# Altium integrated library Maxim Microcontroller.IntLib: 169 symbols (part 6 of 6)
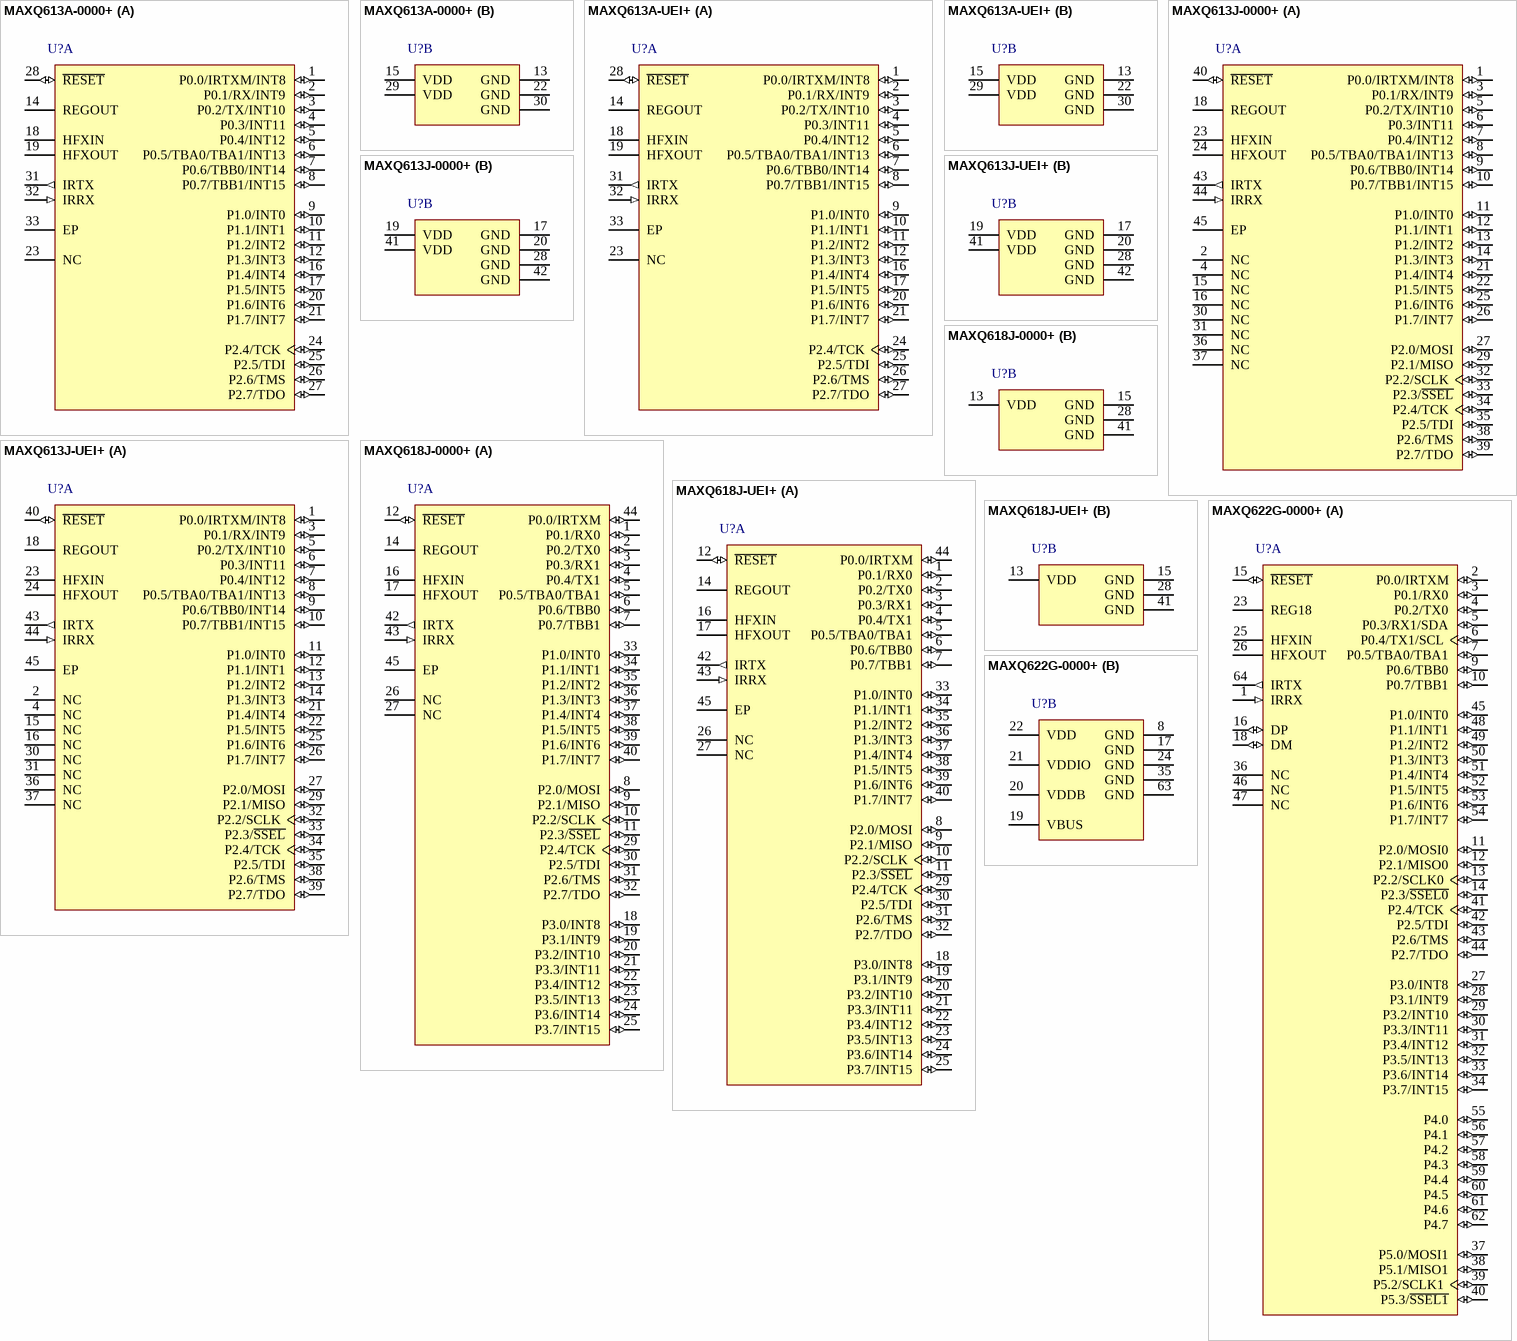
[diagram p29: symbols MAXQ613A-0000+ to MAXQ622G-0000+]

## MAXQ622G-0000+
designator U?
16-bit Microcontroller with Infrared Module and Optional USB, 12 MHz Max. Clock Speed, 64-pin LQFP, 0° to + 70° C, Pb-Free; DatasheetVersion: 1/05/2010; PackageVersion: revG, 2009; PackageReference: C64+5; PackageDescription: 64-Pin Low Quad Flatpack, 10 x 10 x 1.4 mm Body, 0.5 mm Pitch, LQFP, Pb-Free; Code_JEDEC: MS-026-BCD; ComponentLink1Description: Manufacturer URL; ComponentLink1URL: www.maxim-ic.com; ComponentLink2Description: Datasheet; ComponentLink2URL: http://datasheets.maxim-ic.com/en/ds/MAXQ612-MAXQ622.pdf
footprint C64+5_N (Thin QFP, 64-Leads, Body 10x10mm, Pitch 0.5mm, IPC Medium Density)
footprint C64+5_L (Thin QFP, 64-Leads, Body 10x10mm, Pitch 0.5mm, IPC High Density)
footprint C64+5_M (Thin QFP, 64-Leads, Body 10x10mm, Pitch 0.5mm, IPC Low Density)
part A pins: 1 IRRX (in), 2 P0.0/IRTXM (io), 3 P0.1/RX0 (io), 4 P0.2/TX0 (io), 5 P0.3/RX1/SDA (io), 6 P0.4/TX1/SCL (io), 7 P0.5/TBA0/TBA1 (io), 9 P0.6/TBB0 (io), 10 P0.7/TBB1 (io), 11 P2.0/MOSI0 (io), 12 P2.1/MISO0 (io), 13 P2.2/SCLK0 (io), 14 P2.3/~{SSEL0} (io), 15 ~{RESET} (io), 16 DP (io), 18 DM (io), 23 REG18, 25 HFXIN, 26 HFXOUT, 27 P3.0/INT8 (io), 28 P3.1/INT9 (io), 29 P3.2/INT10 (io), 30 P3.3/INT11 (io), 31 P3.4/INT12 (io), 32 P3.5/INT13 (io), 33 P3.6/INT14 (io), 34 P3.7/INT15 (io), 36 NC, 37 P5.0/MOSI1 (io), 38 P5.1/MISO1 (io), 39 P5.2/SCLK1 (io), 40 P5.3/~{SSEL1} (io), 41 P2.4/TCK (io), 42 P2.5/TDI (io), 43 P2.6/TMS (io), 44 P2.7/TDO (io), 45 P1.0/INT0 (io), 46 NC, 47 NC, 48 P1.1/INT1 (io), 49 P1.2/INT2 (io), 50 P1.3/INT3 (io), 51 P1.4/INT4 (io), 52 P1.5/INT5 (io), 53 P1.6/INT6 (io), 54 P1.7/INT7 (io), 55 P4.0 (io), 56 P4.1 (io), 57 P4.2 (io), 58 P4.3 (io), 59 P4.4 (io), 60 P4.5 (io), 61 P4.6 (io), 62 P4.7 (io), 64 IRTX (out)
part B pins: 8 GND (power), 17 GND (power), 19 VBUS (power), 20 VDDB (power), 21 VDDIO (power), 22 VDD (power), 24 GND (power), 35 GND (power), 63 GND (power)

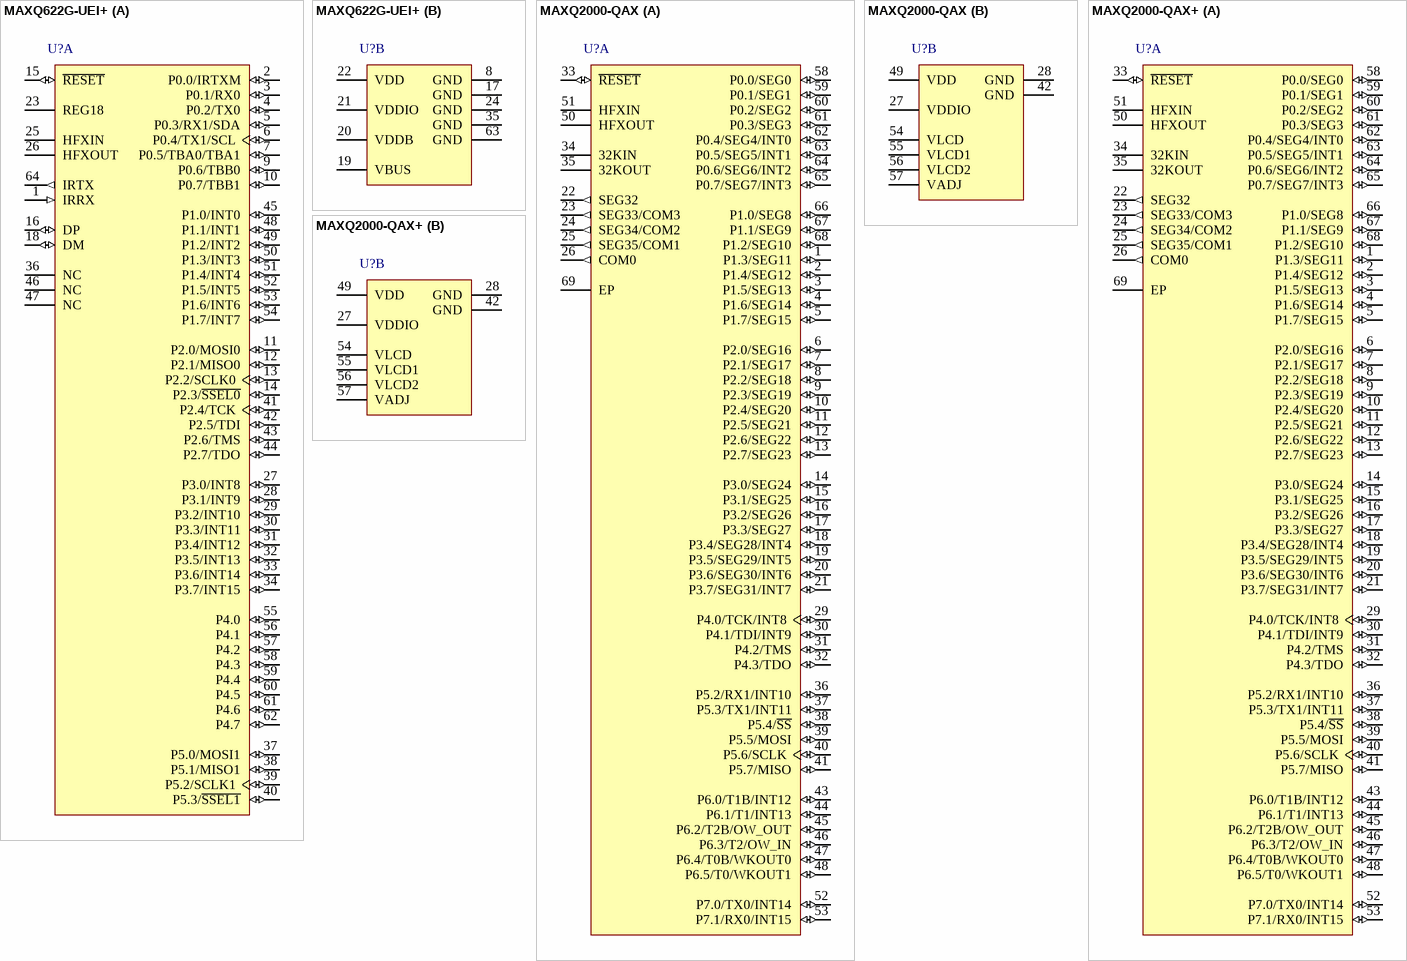
[diagram p20: symbols MAXQ622G-UEI+ to MAXQ2000-QAX+]

## MAXQ622G-UEI+
designator U?
16-bit Microcontroller with Infrared Module and Optional USB, 12 MHz Max. Clock Speed, 64-pin LQFP, 0° to + 70° C, Pb-Free; DatasheetVersion: 1/05/2010; PackageVersion: revG, 2009; PackageReference: C64+5; PackageDescription: 64-Pin Low Quad Flatpack, 10 x 10 x 1.4 mm Body, 0.5 mm Pitch, LQFP, Pb-Free; Code_JEDEC: MS-026-BCD; ComponentLink1Description: Manufacturer URL; ComponentLink1URL: www.maxim-ic.com; ComponentLink2Description: Datasheet; ComponentLink2URL: http://datasheets.maxim-ic.com/en/ds/MAXQ612-MAXQ622.pdf
footprint C64+5_N (Thin QFP, 64-Leads, Body 10x10mm, Pitch 0.5mm, IPC Medium Density)
footprint C64+5_L (Thin QFP, 64-Leads, Body 10x10mm, Pitch 0.5mm, IPC High Density)
footprint C64+5_M (Thin QFP, 64-Leads, Body 10x10mm, Pitch 0.5mm, IPC Low Density)
part A pins: 1 IRRX (in), 2 P0.0/IRTXM (io), 3 P0.1/RX0 (io), 4 P0.2/TX0 (io), 5 P0.3/RX1/SDA (io), 6 P0.4/TX1/SCL (io), 7 P0.5/TBA0/TBA1 (io), 9 P0.6/TBB0 (io), 10 P0.7/TBB1 (io), 11 P2.0/MOSI0 (io), 12 P2.1/MISO0 (io), 13 P2.2/SCLK0 (io), 14 P2.3/~{SSEL0} (io), 15 ~{RESET} (io), 16 DP (io), 18 DM (io), 23 REG18, 25 HFXIN, 26 HFXOUT, 27 P3.0/INT8 (io), 28 P3.1/INT9 (io), 29 P3.2/INT10 (io), 30 P3.3/INT11 (io), 31 P3.4/INT12 (io), 32 P3.5/INT13 (io), 33 P3.6/INT14 (io), 34 P3.7/INT15 (io), 36 NC, 37 P5.0/MOSI1 (io), 38 P5.1/MISO1 (io), 39 P5.2/SCLK1 (io), 40 P5.3/~{SSEL1} (io), 41 P2.4/TCK (io), 42 P2.5/TDI (io), 43 P2.6/TMS (io), 44 P2.7/TDO (io), 45 P1.0/INT0 (io), 46 NC, 47 NC, 48 P1.1/INT1 (io), 49 P1.2/INT2 (io), 50 P1.3/INT3 (io), 51 P1.4/INT4 (io), 52 P1.5/INT5 (io), 53 P1.6/INT6 (io), 54 P1.7/INT7 (io), 55 P4.0 (io), 56 P4.1 (io), 57 P4.2 (io), 58 P4.3 (io), 59 P4.4 (io), 60 P4.5 (io), 61 P4.6 (io), 62 P4.7 (io), 64 IRTX (out)
part B pins: 8 GND (power), 17 GND (power), 19 VBUS (power), 20 VDDB (power), 21 VDDIO (power), 22 VDD (power), 24 GND (power), 35 GND (power), 63 GND (power)

## MAXQ2000-QAX
designator U?
16-bit Low-Power LCD Microcontroller, 20 MHz Max. Clock Speed, 68-pin QFN, -40° to + 85° C; DatasheetVersion: 1/07/2008; PackageVersion: revD, 2008; PackageReference: G6800-4; PackageDescription: 68-Pin Quad Flatpack, No Leads, 10 x 10 x 0.85 mm Body, 0.5 mm Pitch, QFN; Code_JEDEC: MO-220; ComponentLink1Description: Manufacturer URL; ComponentLink1URL: www.maxim-ic.com; ComponentLink2Description: Datasheet; ComponentLink2URL: http://datasheets.maxim-ic.com/en/ds/MAXQ2000.pdf
footprint G6800-4_N (QFN, 68-Leads, Body 10x10mm, Pitch 0.5mm, Thermal Pad 6x6mm, IPC Medium Density)
footprint G6800-4_L (QFN, 68-Leads, Body 10x10mm, Pitch 0.5mm, Thermal Pad 6x6mm, IPC High Density)
footprint G6800-4_M (QFN, 68-Leads, Body 10x10mm, Pitch 0.5mm, Thermal Pad 6x6mm, IPC Low Density)
part A pins: 1 P1.3/SEG11 (io), 2 P1.4/SEG12 (io), 3 P1.5/SEG13 (io), 4 P1.6/SEG14 (io), 5 P1.7/SEG15 (io), 6 P2.0/SEG16 (io), 7 P2.1/SEG17 (io), 8 P2.2/SEG18 (io), 9 P2.3/SEG19 (io), 10 P2.4/SEG20 (io), 11 P2.5/SEG21 (io), 12 P2.6/SEG22 (io), 13 P2.7/SEG23 (io), 14 P3.0/SEG24 (io), 15 P3.1/SEG25 (io), 16 P3.2/SEG26 (io), 17 P3.3/SEG27 (io), 18 P3.4/SEG28/INT4 (io), 19 P3.5/SEG29/INT5 (io), 20 P3.6/SEG30/INT6 (io), 21 P3.7/SEG31/INT7 (io), 22 SEG32 (out), 23 SEG33/COM3 (out), 24 SEG34/COM2 (out), 25 SEG35/COM1 (out), 26 COM0 (out), 29 P4.0/TCK/INT8 (io), 30 P4.1/TDI/INT9 (io), 31 P4.2/TMS (io), 32 P4.3/TDO (io), 33 ~{RESET} (io), 34 32KIN, 35 32KOUT, 36 P5.2/RX1/INT10 (io), 37 P5.3/TX1/INT11 (io), 38 P5.4/~{SS} (io), 39 P5.5/MOSI (io), 40 P5.6/SCLK (io), 41 P5.7/MISO (io), 43 P6.0/T1B/INT12 (io), 44 P6.1/T1/INT13 (io), 45 P6.2/T2B/OW_OUT (io), 46 P6.3/T2/OW_IN (io), 47 P6.4/T0B/WKOUT0 (io), 48 P6.5/T0/WKOUT1 (io), 50 HFXOUT, 51 HFXIN, 52 P7.0/TX0/INT14 (io), 53 P7.1/RX0/INT15 (io), 58 P0.0/SEG0 (io), 59 P0.1/SEG1 (io), 60 P0.2/SEG2 (io), 61 P0.3/SEG3 (io), 62 P0.4/SEG4/INT0 (io), 63 P0.5/SEG5/INT1 (io), 64 P0.6/SEG6/INT2 (io), 65 P0.7/SEG7/INT3 (io), 66 P1.0/SEG8 (io), 67 P1.1/SEG9 (io), 68 P1.2/SEG10 (io), 69 EP
part B pins: 27 VDDIO (power), 28 GND (power), 42 GND (power), 49 VDD (power), 54 VLCD (power), 55 VLCD1 (power), 56 VLCD2 (power), 57 VADJ (power)

## MAXQ2000-QAX+
designator U?
16-bit Low-Power LCD Microcontroller, 20 MHz Max. Clock Speed, 68-pin QFN, -40° to + 85° C, Pb-Free; DatasheetVersion: 1/07/2008; PackageVersion: revD, 2008; PackageReference: G6800+4; PackageDescription: 68-Pin Quad Flatpack, No Leads, 10 x 10 x 0.85 mm Body, 0.5 mm Pitch, QFN, Pb-Free; Code_JEDEC: MO-220; ComponentLink1Description: Manufacturer URL; ComponentLink1URL: www.maxim-ic.com; ComponentLink2Description: Datasheet; ComponentLink2URL: http://datasheets.maxim-ic.com/en/ds/MAXQ2000.pdf
footprint G6800+4_N (QFN, 68-Leads, Body 10x10mm, Pitch 0.5mm, Thermal Pad 6x6mm, IPC Medium Density)
footprint G6800+4_L (QFN, 68-Leads, Body 10x10mm, Pitch 0.5mm, Thermal Pad 6x6mm, IPC High Density)
footprint G6800+4_M (QFN, 68-Leads, Body 10x10mm, Pitch 0.5mm, Thermal Pad 6x6mm, IPC Low Density)
part A pins: 1 P1.3/SEG11 (io), 2 P1.4/SEG12 (io), 3 P1.5/SEG13 (io), 4 P1.6/SEG14 (io), 5 P1.7/SEG15 (io), 6 P2.0/SEG16 (io), 7 P2.1/SEG17 (io), 8 P2.2/SEG18 (io), 9 P2.3/SEG19 (io), 10 P2.4/SEG20 (io), 11 P2.5/SEG21 (io), 12 P2.6/SEG22 (io), 13 P2.7/SEG23 (io), 14 P3.0/SEG24 (io), 15 P3.1/SEG25 (io), 16 P3.2/SEG26 (io), 17 P3.3/SEG27 (io), 18 P3.4/SEG28/INT4 (io), 19 P3.5/SEG29/INT5 (io), 20 P3.6/SEG30/INT6 (io), 21 P3.7/SEG31/INT7 (io), 22 SEG32 (out), 23 SEG33/COM3 (out), 24 SEG34/COM2 (out), 25 SEG35/COM1 (out), 26 COM0 (out), 29 P4.0/TCK/INT8 (io), 30 P4.1/TDI/INT9 (io), 31 P4.2/TMS (io), 32 P4.3/TDO (io), 33 ~{RESET} (io), 34 32KIN, 35 32KOUT, 36 P5.2/RX1/INT10 (io), 37 P5.3/TX1/INT11 (io), 38 P5.4/~{SS} (io), 39 P5.5/MOSI (io), 40 P5.6/SCLK (io), 41 P5.7/MISO (io), 43 P6.0/T1B/INT12 (io), 44 P6.1/T1/INT13 (io), 45 P6.2/T2B/OW_OUT (io), 46 P6.3/T2/OW_IN (io), 47 P6.4/T0B/WKOUT0 (io), 48 P6.5/T0/WKOUT1 (io), 50 HFXOUT, 51 HFXIN, 52 P7.0/TX0/INT14 (io), 53 P7.1/RX0/INT15 (io), 58 P0.0/SEG0 (io), 59 P0.1/SEG1 (io), 60 P0.2/SEG2 (io), 61 P0.3/SEG3 (io), 62 P0.4/SEG4/INT0 (io), 63 P0.5/SEG5/INT1 (io), 64 P0.6/SEG6/INT2 (io), 65 P0.7/SEG7/INT3 (io), 66 P1.0/SEG8 (io), 67 P1.1/SEG9 (io), 68 P1.2/SEG10 (io), 69 EP
part B pins: 27 VDDIO (power), 28 GND (power), 42 GND (power), 49 VDD (power), 54 VLCD (power), 55 VLCD1 (power), 56 VLCD2 (power), 57 VADJ (power)

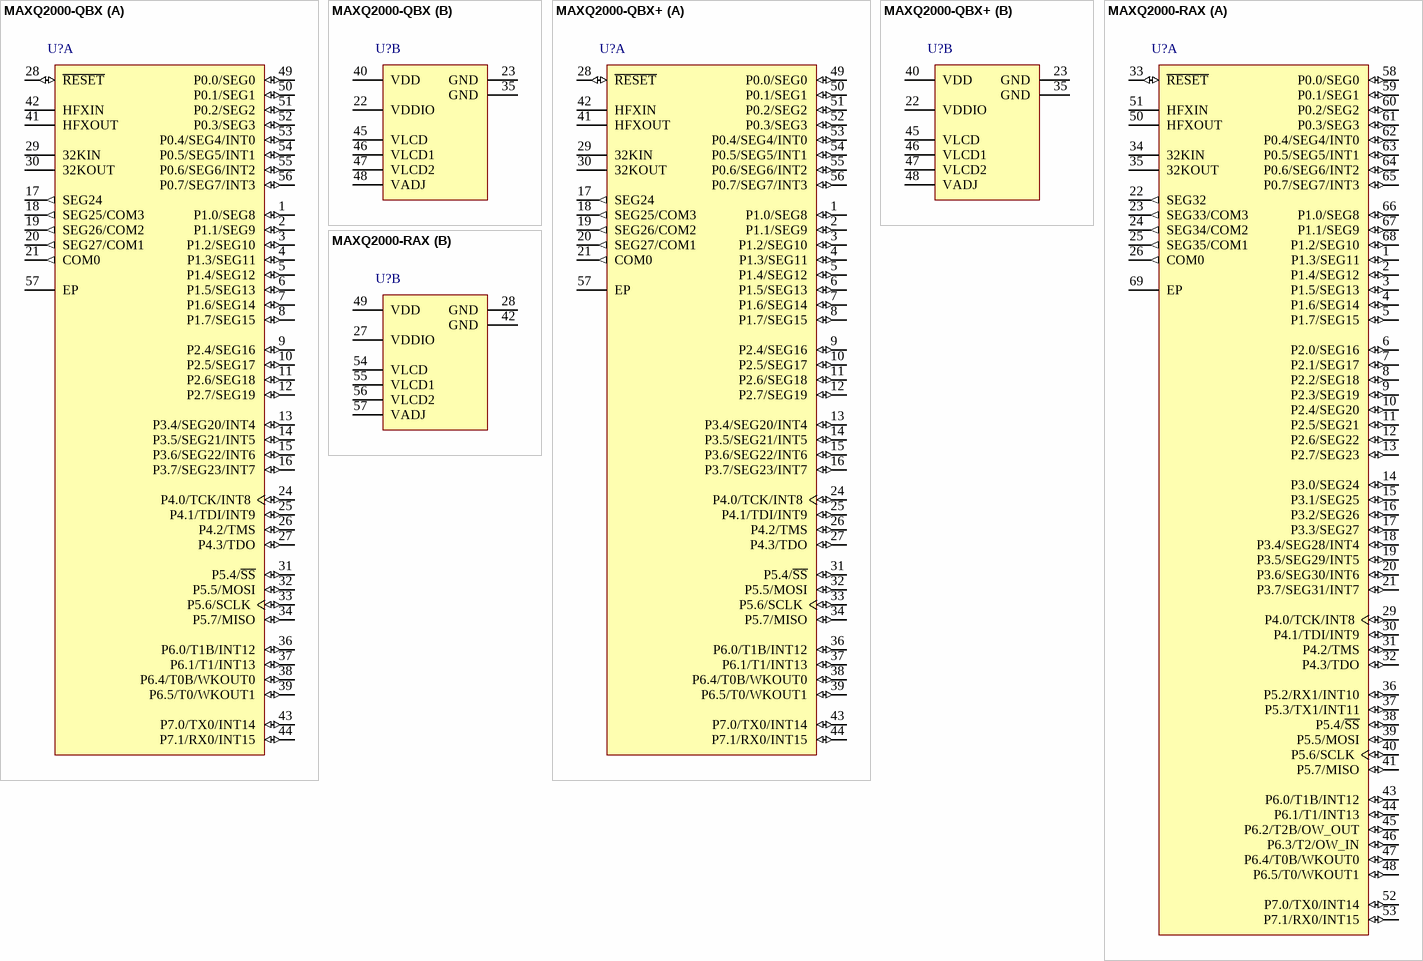
[diagram p21: symbols MAXQ2000-QBX to MAXQ2000-RAX]

## MAXQ2000-QBX
designator U?
16-bit Low-Power LCD Microcontroller, 20 MHz Max. Clock Speed, 56-pin TQFN, -40° to + 85° C; DatasheetVersion: 1/07/2008; PackageVersion: revF, 2007; PackageReference: T5688-2; PackageDescription: 48-Pin Thin Quad Flatpack, No Leads, 8 x 8 x 0.8 mm Body, 0.5 mm Pitch, TQFN; Code_JEDEC: MO-220-WLLD-5; ComponentLink1Description: Manufacturer URL; ComponentLink1URL: www.maxim-ic.com; ComponentLink2Description: Datasheet; ComponentLink2URL: http://datasheets.maxim-ic.com/en/ds/MAXQ2000.pdf
footprint T5688-2_N (QFN, 56-Leads, Body 8x8mm, Pitch 0.5mm, Thermal Pad 6.7x6.7mm, IPC Medium Density)
footprint T5688-2_L (QFN, 56-Leads, Body 8x8mm, Pitch 0.5mm, Thermal Pad 6.7x6.7mm, IPC High Density)
footprint T5688-2_M (QFN, 56-Leads, Body 8x8mm, Pitch 0.5mm, Thermal Pad 6.7x6.7mm, IPC Low Density)
part A pins: 1 P1.0/SEG8 (io), 2 P1.1/SEG9 (io), 3 P1.2/SEG10 (io), 4 P1.3/SEG11 (io), 5 P1.4/SEG12 (io), 6 P1.5/SEG13 (io), 7 P1.6/SEG14 (io), 8 P1.7/SEG15 (io), 9 P2.4/SEG16 (io), 10 P2.5/SEG17 (io), 11 P2.6/SEG18 (io), 12 P2.7/SEG19 (io), 13 P3.4/SEG20/INT4 (io), 14 P3.5/SEG21/INT5 (io), 15 P3.6/SEG22/INT6 (io), 16 P3.7/SEG23/INT7 (io), 17 SEG24 (out), 18 SEG25/COM3 (out), 19 SEG26/COM2 (out), 20 SEG27/COM1 (out), 21 COM0 (out), 24 P4.0/TCK/INT8 (io), 25 P4.1/TDI/INT9 (io), 26 P4.2/TMS (io), 27 P4.3/TDO (io), 28 ~{RESET} (io), 29 32KIN, 30 32KOUT, 31 P5.4/~{SS} (io), 32 P5.5/MOSI (io), 33 P5.6/SCLK (io), 34 P5.7/MISO (io), 36 P6.0/T1B/INT12 (io), 37 P6.1/T1/INT13 (io), 38 P6.4/T0B/WKOUT0 (io), 39 P6.5/T0/WKOUT1 (io), 41 HFXOUT, 42 HFXIN, 43 P7.0/TX0/INT14 (io), 44 P7.1/RX0/INT15 (io), 49 P0.0/SEG0 (io), 50 P0.1/SEG1 (io), 51 P0.2/SEG2 (io), 52 P0.3/SEG3 (io), 53 P0.4/SEG4/INT0 (io), 54 P0.5/SEG5/INT1 (io), 55 P0.6/SEG6/INT2 (io), 56 P0.7/SEG7/INT3 (io), 57 EP
part B pins: 22 VDDIO (power), 23 GND (power), 35 GND (power), 40 VDD (power), 45 VLCD (power), 46 VLCD1 (power), 47 VLCD2 (power), 48 VADJ (power)

## MAXQ2000-QBX+
designator U?
16-bit Low-Power LCD Microcontroller, 20 MHz Max. Clock Speed, 56-pin TQFN, -40° to + 85° C, Pb-Free; DatasheetVersion: 1/07/2008; PackageVersion: revF, 2007; PackageReference: T5688+2; PackageDescription: 48-Pin Thin Quad Flatpack, No Leads, 8 x 8 x 0.8 mm Body, 0.5 mm Pitch, TQFN, Pb-Free; Code_JEDEC: MO-220-WLLD-5; ComponentLink1Description: Manufacturer URL; ComponentLink1URL: www.maxim-ic.com; ComponentLink2Description: Datasheet; ComponentLink2URL: http://datasheets.maxim-ic.com/en/ds/MAXQ2000.pdf
footprint T5688+2_N (QFN, 56-Leads, Body 8x8mm, Pitch 0.5mm, Thermal Pad 6.7x6.7mm, IPC Medium Density)
footprint T5688+2_L (QFN, 56-Leads, Body 8x8mm, Pitch 0.5mm, Thermal Pad 6.7x6.7mm, IPC High Density)
footprint T5688+2_M (QFN, 56-Leads, Body 8x8mm, Pitch 0.5mm, Thermal Pad 6.7x6.7mm, IPC Low Density)
part A pins: 1 P1.0/SEG8 (io), 2 P1.1/SEG9 (io), 3 P1.2/SEG10 (io), 4 P1.3/SEG11 (io), 5 P1.4/SEG12 (io), 6 P1.5/SEG13 (io), 7 P1.6/SEG14 (io), 8 P1.7/SEG15 (io), 9 P2.4/SEG16 (io), 10 P2.5/SEG17 (io), 11 P2.6/SEG18 (io), 12 P2.7/SEG19 (io), 13 P3.4/SEG20/INT4 (io), 14 P3.5/SEG21/INT5 (io), 15 P3.6/SEG22/INT6 (io), 16 P3.7/SEG23/INT7 (io), 17 SEG24 (out), 18 SEG25/COM3 (out), 19 SEG26/COM2 (out), 20 SEG27/COM1 (out), 21 COM0 (out), 24 P4.0/TCK/INT8 (io), 25 P4.1/TDI/INT9 (io), 26 P4.2/TMS (io), 27 P4.3/TDO (io), 28 ~{RESET} (io), 29 32KIN, 30 32KOUT, 31 P5.4/~{SS} (io), 32 P5.5/MOSI (io), 33 P5.6/SCLK (io), 34 P5.7/MISO (io), 36 P6.0/T1B/INT12 (io), 37 P6.1/T1/INT13 (io), 38 P6.4/T0B/WKOUT0 (io), 39 P6.5/T0/WKOUT1 (io), 41 HFXOUT, 42 HFXIN, 43 P7.0/TX0/INT14 (io), 44 P7.1/RX0/INT15 (io), 49 P0.0/SEG0 (io), 50 P0.1/SEG1 (io), 51 P0.2/SEG2 (io), 52 P0.3/SEG3 (io), 53 P0.4/SEG4/INT0 (io), 54 P0.5/SEG5/INT1 (io), 55 P0.6/SEG6/INT2 (io), 56 P0.7/SEG7/INT3 (io), 57 EP
part B pins: 22 VDDIO (power), 23 GND (power), 35 GND (power), 40 VDD (power), 45 VLCD (power), 46 VLCD1 (power), 47 VLCD2 (power), 48 VADJ (power)

## MAXQ2000-RAX
designator U?
16-bit Low-Power LCD Microcontroller, 20 MHz Max. Clock Speed, 68-pin QFN, -40° to + 85° C; DatasheetVersion: 1/07/2008; PackageVersion: revD, 2008; PackageReference: G6800-4; PackageDescription: 68-Pin Quad Flatpack, No Leads, 10 x 10 x 0.85 mm Body, 0.5 mm Pitch, QFN; Code_JEDEC: MO-220; ComponentLink1Description: Manufacturer URL; ComponentLink1URL: www.maxim-ic.com; ComponentLink2Description: Datasheet; ComponentLink2URL: http://datasheets.maxim-ic.com/en/ds/MAXQ2000.pdf
footprint G6800-4_N (QFN, 68-Leads, Body 10x10mm, Pitch 0.5mm, Thermal Pad 6x6mm, IPC Medium Density)
footprint G6800-4_L (QFN, 68-Leads, Body 10x10mm, Pitch 0.5mm, Thermal Pad 6x6mm, IPC High Density)
footprint G6800-4_M (QFN, 68-Leads, Body 10x10mm, Pitch 0.5mm, Thermal Pad 6x6mm, IPC Low Density)
part A pins: 1 P1.3/SEG11 (io), 2 P1.4/SEG12 (io), 3 P1.5/SEG13 (io), 4 P1.6/SEG14 (io), 5 P1.7/SEG15 (io), 6 P2.0/SEG16 (io), 7 P2.1/SEG17 (io), 8 P2.2/SEG18 (io), 9 P2.3/SEG19 (io), 10 P2.4/SEG20 (io), 11 P2.5/SEG21 (io), 12 P2.6/SEG22 (io), 13 P2.7/SEG23 (io), 14 P3.0/SEG24 (io), 15 P3.1/SEG25 (io), 16 P3.2/SEG26 (io), 17 P3.3/SEG27 (io), 18 P3.4/SEG28/INT4 (io), 19 P3.5/SEG29/INT5 (io), 20 P3.6/SEG30/INT6 (io), 21 P3.7/SEG31/INT7 (io), 22 SEG32 (out), 23 SEG33/COM3 (out), 24 SEG34/COM2 (out), 25 SEG35/COM1 (out), 26 COM0 (out), 29 P4.0/TCK/INT8 (io), 30 P4.1/TDI/INT9 (io), 31 P4.2/TMS (io), 32 P4.3/TDO (io), 33 ~{RESET} (io), 34 32KIN, 35 32KOUT, 36 P5.2/RX1/INT10 (io), 37 P5.3/TX1/INT11 (io), 38 P5.4/~{SS} (io), 39 P5.5/MOSI (io), 40 P5.6/SCLK (io), 41 P5.7/MISO (io), 43 P6.0/T1B/INT12 (io), 44 P6.1/T1/INT13 (io), 45 P6.2/T2B/OW_OUT (io), 46 P6.3/T2/OW_IN (io), 47 P6.4/T0B/WKOUT0 (io), 48 P6.5/T0/WKOUT1 (io), 50 HFXOUT, 51 HFXIN, 52 P7.0/TX0/INT14 (io), 53 P7.1/RX0/INT15 (io), 58 P0.0/SEG0 (io), 59 P0.1/SEG1 (io), 60 P0.2/SEG2 (io), 61 P0.3/SEG3 (io), 62 P0.4/SEG4/INT0 (io), 63 P0.5/SEG5/INT1 (io), 64 P0.6/SEG6/INT2 (io), 65 P0.7/SEG7/INT3 (io), 66 P1.0/SEG8 (io), 67 P1.1/SEG9 (io), 68 P1.2/SEG10 (io), 69 EP
part B pins: 27 VDDIO (power), 28 GND (power), 42 GND (power), 49 VDD (power), 54 VLCD (power), 55 VLCD1 (power), 56 VLCD2 (power), 57 VADJ (power)

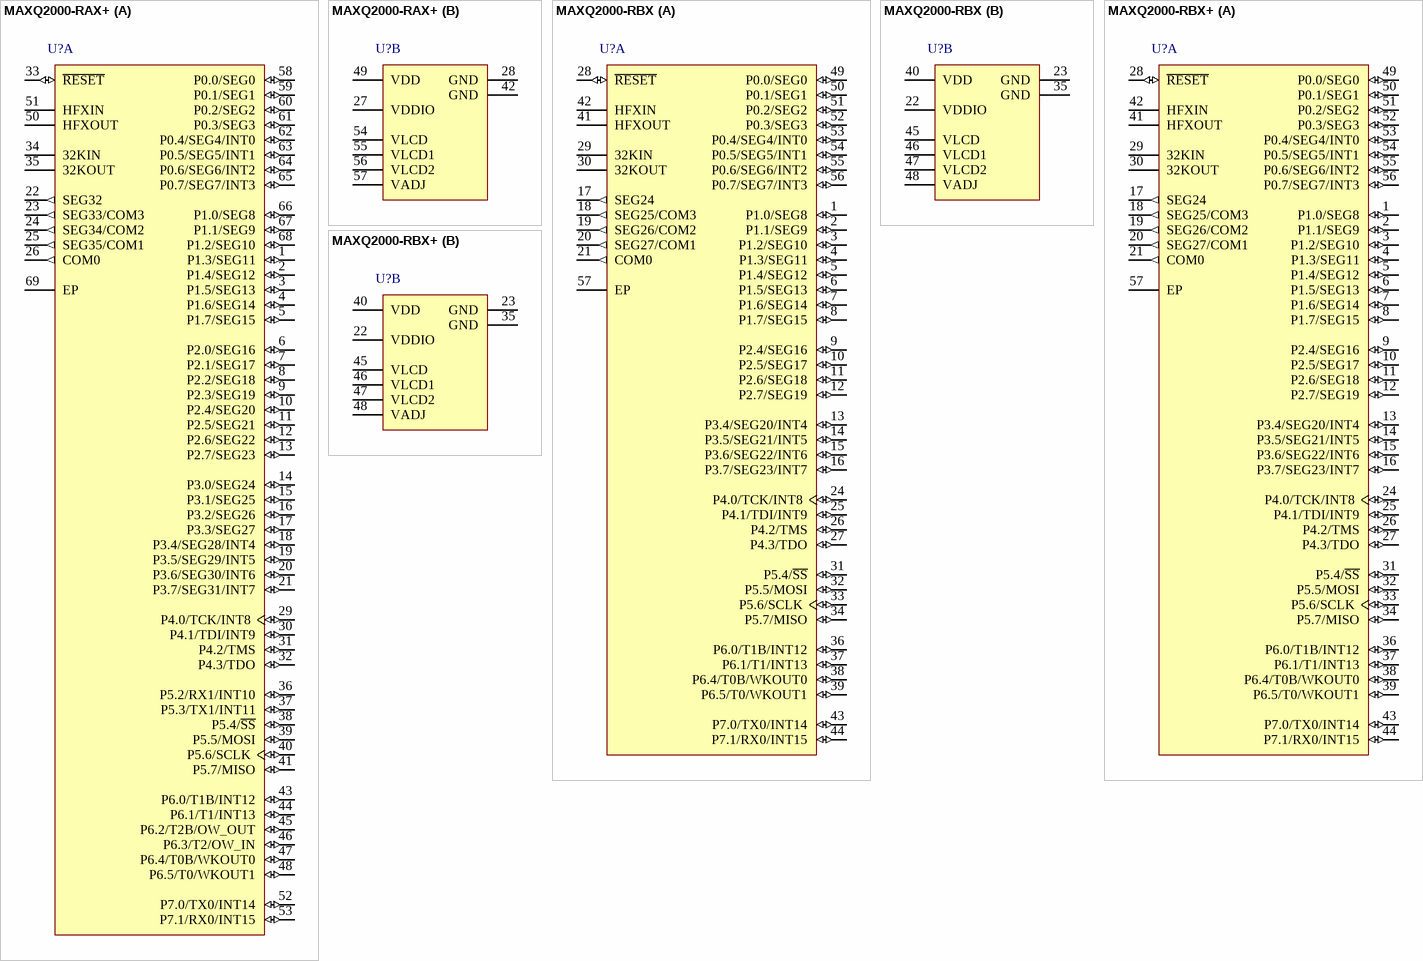
[diagram p22: symbols MAXQ2000-RAX+ to MAXQ2000-RBX+]

## MAXQ2000-RAX+
designator U?
16-bit Low-Power LCD Microcontroller, 20 MHz Max. Clock Speed, 68-pin QFN, -40° to + 85° C, Pb-Free; DatasheetVersion: 1/07/2008; PackageVersion: revD, 2008; PackageReference: G6800+4; PackageDescription: 68-Pin Quad Flatpack, No Leads, 10 x 10 x 0.85 mm Body, 0.5 mm Pitch, QFN, Pb-Free; Code_JEDEC: MO-220; ComponentLink1Description: Manufacturer URL; ComponentLink1URL: www.maxim-ic.com; ComponentLink2Description: Datasheet; ComponentLink2URL: http://datasheets.maxim-ic.com/en/ds/MAXQ2000.pdf
footprint G6800+4_N (QFN, 68-Leads, Body 10x10mm, Pitch 0.5mm, Thermal Pad 6x6mm, IPC Medium Density)
footprint G6800+4_L (QFN, 68-Leads, Body 10x10mm, Pitch 0.5mm, Thermal Pad 6x6mm, IPC High Density)
footprint G6800+4_M (QFN, 68-Leads, Body 10x10mm, Pitch 0.5mm, Thermal Pad 6x6mm, IPC Low Density)
part A pins: 1 P1.3/SEG11 (io), 2 P1.4/SEG12 (io), 3 P1.5/SEG13 (io), 4 P1.6/SEG14 (io), 5 P1.7/SEG15 (io), 6 P2.0/SEG16 (io), 7 P2.1/SEG17 (io), 8 P2.2/SEG18 (io), 9 P2.3/SEG19 (io), 10 P2.4/SEG20 (io), 11 P2.5/SEG21 (io), 12 P2.6/SEG22 (io), 13 P2.7/SEG23 (io), 14 P3.0/SEG24 (io), 15 P3.1/SEG25 (io), 16 P3.2/SEG26 (io), 17 P3.3/SEG27 (io), 18 P3.4/SEG28/INT4 (io), 19 P3.5/SEG29/INT5 (io), 20 P3.6/SEG30/INT6 (io), 21 P3.7/SEG31/INT7 (io), 22 SEG32 (out), 23 SEG33/COM3 (out), 24 SEG34/COM2 (out), 25 SEG35/COM1 (out), 26 COM0 (out), 29 P4.0/TCK/INT8 (io), 30 P4.1/TDI/INT9 (io), 31 P4.2/TMS (io), 32 P4.3/TDO (io), 33 ~{RESET} (io), 34 32KIN, 35 32KOUT, 36 P5.2/RX1/INT10 (io), 37 P5.3/TX1/INT11 (io), 38 P5.4/~{SS} (io), 39 P5.5/MOSI (io), 40 P5.6/SCLK (io), 41 P5.7/MISO (io), 43 P6.0/T1B/INT12 (io), 44 P6.1/T1/INT13 (io), 45 P6.2/T2B/OW_OUT (io), 46 P6.3/T2/OW_IN (io), 47 P6.4/T0B/WKOUT0 (io), 48 P6.5/T0/WKOUT1 (io), 50 HFXOUT, 51 HFXIN, 52 P7.0/TX0/INT14 (io), 53 P7.1/RX0/INT15 (io), 58 P0.0/SEG0 (io), 59 P0.1/SEG1 (io), 60 P0.2/SEG2 (io), 61 P0.3/SEG3 (io), 62 P0.4/SEG4/INT0 (io), 63 P0.5/SEG5/INT1 (io), 64 P0.6/SEG6/INT2 (io), 65 P0.7/SEG7/INT3 (io), 66 P1.0/SEG8 (io), 67 P1.1/SEG9 (io), 68 P1.2/SEG10 (io), 69 EP
part B pins: 27 VDDIO (power), 28 GND (power), 42 GND (power), 49 VDD (power), 54 VLCD (power), 55 VLCD1 (power), 56 VLCD2 (power), 57 VADJ (power)

## MAXQ2000-RBX
designator U?
16-bit Low-Power LCD Microcontroller, 20 MHz Max. Clock Speed, 56-pin TQFN, -40° to + 85° C; DatasheetVersion: 1/07/2008; PackageVersion: revF, 2007; PackageReference: T5688-2; PackageDescription: 48-Pin Thin Quad Flatpack, No Leads, 8 x 8 x 0.8 mm Body, 0.5 mm Pitch, TQFN; Code_JEDEC: MO-220-WLLD-5; ComponentLink1Description: Manufacturer URL; ComponentLink1URL: www.maxim-ic.com; ComponentLink2Description: Datasheet; ComponentLink2URL: http://datasheets.maxim-ic.com/en/ds/MAXQ2000.pdf
footprint T5688-2_N (QFN, 56-Leads, Body 8x8mm, Pitch 0.5mm, Thermal Pad 6.7x6.7mm, IPC Medium Density)
footprint T5688-2_L (QFN, 56-Leads, Body 8x8mm, Pitch 0.5mm, Thermal Pad 6.7x6.7mm, IPC High Density)
footprint T5688-2_M (QFN, 56-Leads, Body 8x8mm, Pitch 0.5mm, Thermal Pad 6.7x6.7mm, IPC Low Density)
part A pins: 1 P1.0/SEG8 (io), 2 P1.1/SEG9 (io), 3 P1.2/SEG10 (io), 4 P1.3/SEG11 (io), 5 P1.4/SEG12 (io), 6 P1.5/SEG13 (io), 7 P1.6/SEG14 (io), 8 P1.7/SEG15 (io), 9 P2.4/SEG16 (io), 10 P2.5/SEG17 (io), 11 P2.6/SEG18 (io), 12 P2.7/SEG19 (io), 13 P3.4/SEG20/INT4 (io), 14 P3.5/SEG21/INT5 (io), 15 P3.6/SEG22/INT6 (io), 16 P3.7/SEG23/INT7 (io), 17 SEG24 (out), 18 SEG25/COM3 (out), 19 SEG26/COM2 (out), 20 SEG27/COM1 (out), 21 COM0 (out), 24 P4.0/TCK/INT8 (io), 25 P4.1/TDI/INT9 (io), 26 P4.2/TMS (io), 27 P4.3/TDO (io), 28 ~{RESET} (io), 29 32KIN, 30 32KOUT, 31 P5.4/~{SS} (io), 32 P5.5/MOSI (io), 33 P5.6/SCLK (io), 34 P5.7/MISO (io), 36 P6.0/T1B/INT12 (io), 37 P6.1/T1/INT13 (io), 38 P6.4/T0B/WKOUT0 (io), 39 P6.5/T0/WKOUT1 (io), 41 HFXOUT, 42 HFXIN, 43 P7.0/TX0/INT14 (io), 44 P7.1/RX0/INT15 (io), 49 P0.0/SEG0 (io), 50 P0.1/SEG1 (io), 51 P0.2/SEG2 (io), 52 P0.3/SEG3 (io), 53 P0.4/SEG4/INT0 (io), 54 P0.5/SEG5/INT1 (io), 55 P0.6/SEG6/INT2 (io), 56 P0.7/SEG7/INT3 (io), 57 EP
part B pins: 22 VDDIO (power), 23 GND (power), 35 GND (power), 40 VDD (power), 45 VLCD (power), 46 VLCD1 (power), 47 VLCD2 (power), 48 VADJ (power)

## MAXQ2000-RBX+
designator U?
16-bit Low-Power LCD Microcontroller, 20 MHz Max. Clock Speed, 56-pin TQFN, -40° to + 85° C, Pb-Free; DatasheetVersion: 1/07/2008; PackageVersion: revF, 2007; PackageReference: T5688+2; PackageDescription: 48-Pin Thin Quad Flatpack, No Leads, 8 x 8 x 0.8 mm Body, 0.5 mm Pitch, TQFN, Pb-Free; Code_JEDEC: MO-220-WLLD-5; ComponentLink1Description: Manufacturer URL; ComponentLink1URL: www.maxim-ic.com; ComponentLink2Description: Datasheet; ComponentLink2URL: http://datasheets.maxim-ic.com/en/ds/MAXQ2000.pdf
footprint T5688+2_N (QFN, 56-Leads, Body 8x8mm, Pitch 0.5mm, Thermal Pad 6.7x6.7mm, IPC Medium Density)
footprint T5688+2_L (QFN, 56-Leads, Body 8x8mm, Pitch 0.5mm, Thermal Pad 6.7x6.7mm, IPC High Density)
footprint T5688+2_M (QFN, 56-Leads, Body 8x8mm, Pitch 0.5mm, Thermal Pad 6.7x6.7mm, IPC Low Density)
part A pins: 1 P1.0/SEG8 (io), 2 P1.1/SEG9 (io), 3 P1.2/SEG10 (io), 4 P1.3/SEG11 (io), 5 P1.4/SEG12 (io), 6 P1.5/SEG13 (io), 7 P1.6/SEG14 (io), 8 P1.7/SEG15 (io), 9 P2.4/SEG16 (io), 10 P2.5/SEG17 (io), 11 P2.6/SEG18 (io), 12 P2.7/SEG19 (io), 13 P3.4/SEG20/INT4 (io), 14 P3.5/SEG21/INT5 (io), 15 P3.6/SEG22/INT6 (io), 16 P3.7/SEG23/INT7 (io), 17 SEG24 (out), 18 SEG25/COM3 (out), 19 SEG26/COM2 (out), 20 SEG27/COM1 (out), 21 COM0 (out), 24 P4.0/TCK/INT8 (io), 25 P4.1/TDI/INT9 (io), 26 P4.2/TMS (io), 27 P4.3/TDO (io), 28 ~{RESET} (io), 29 32KIN, 30 32KOUT, 31 P5.4/~{SS} (io), 32 P5.5/MOSI (io), 33 P5.6/SCLK (io), 34 P5.7/MISO (io), 36 P6.0/T1B/INT12 (io), 37 P6.1/T1/INT13 (io), 38 P6.4/T0B/WKOUT0 (io), 39 P6.5/T0/WKOUT1 (io), 41 HFXOUT, 42 HFXIN, 43 P7.0/TX0/INT14 (io), 44 P7.1/RX0/INT15 (io), 49 P0.0/SEG0 (io), 50 P0.1/SEG1 (io), 51 P0.2/SEG2 (io), 52 P0.3/SEG3 (io), 53 P0.4/SEG4/INT0 (io), 54 P0.5/SEG5/INT1 (io), 55 P0.6/SEG6/INT2 (io), 56 P0.7/SEG7/INT3 (io), 57 EP
part B pins: 22 VDDIO (power), 23 GND (power), 35 GND (power), 40 VDD (power), 45 VLCD (power), 46 VLCD1 (power), 47 VLCD2 (power), 48 VADJ (power)

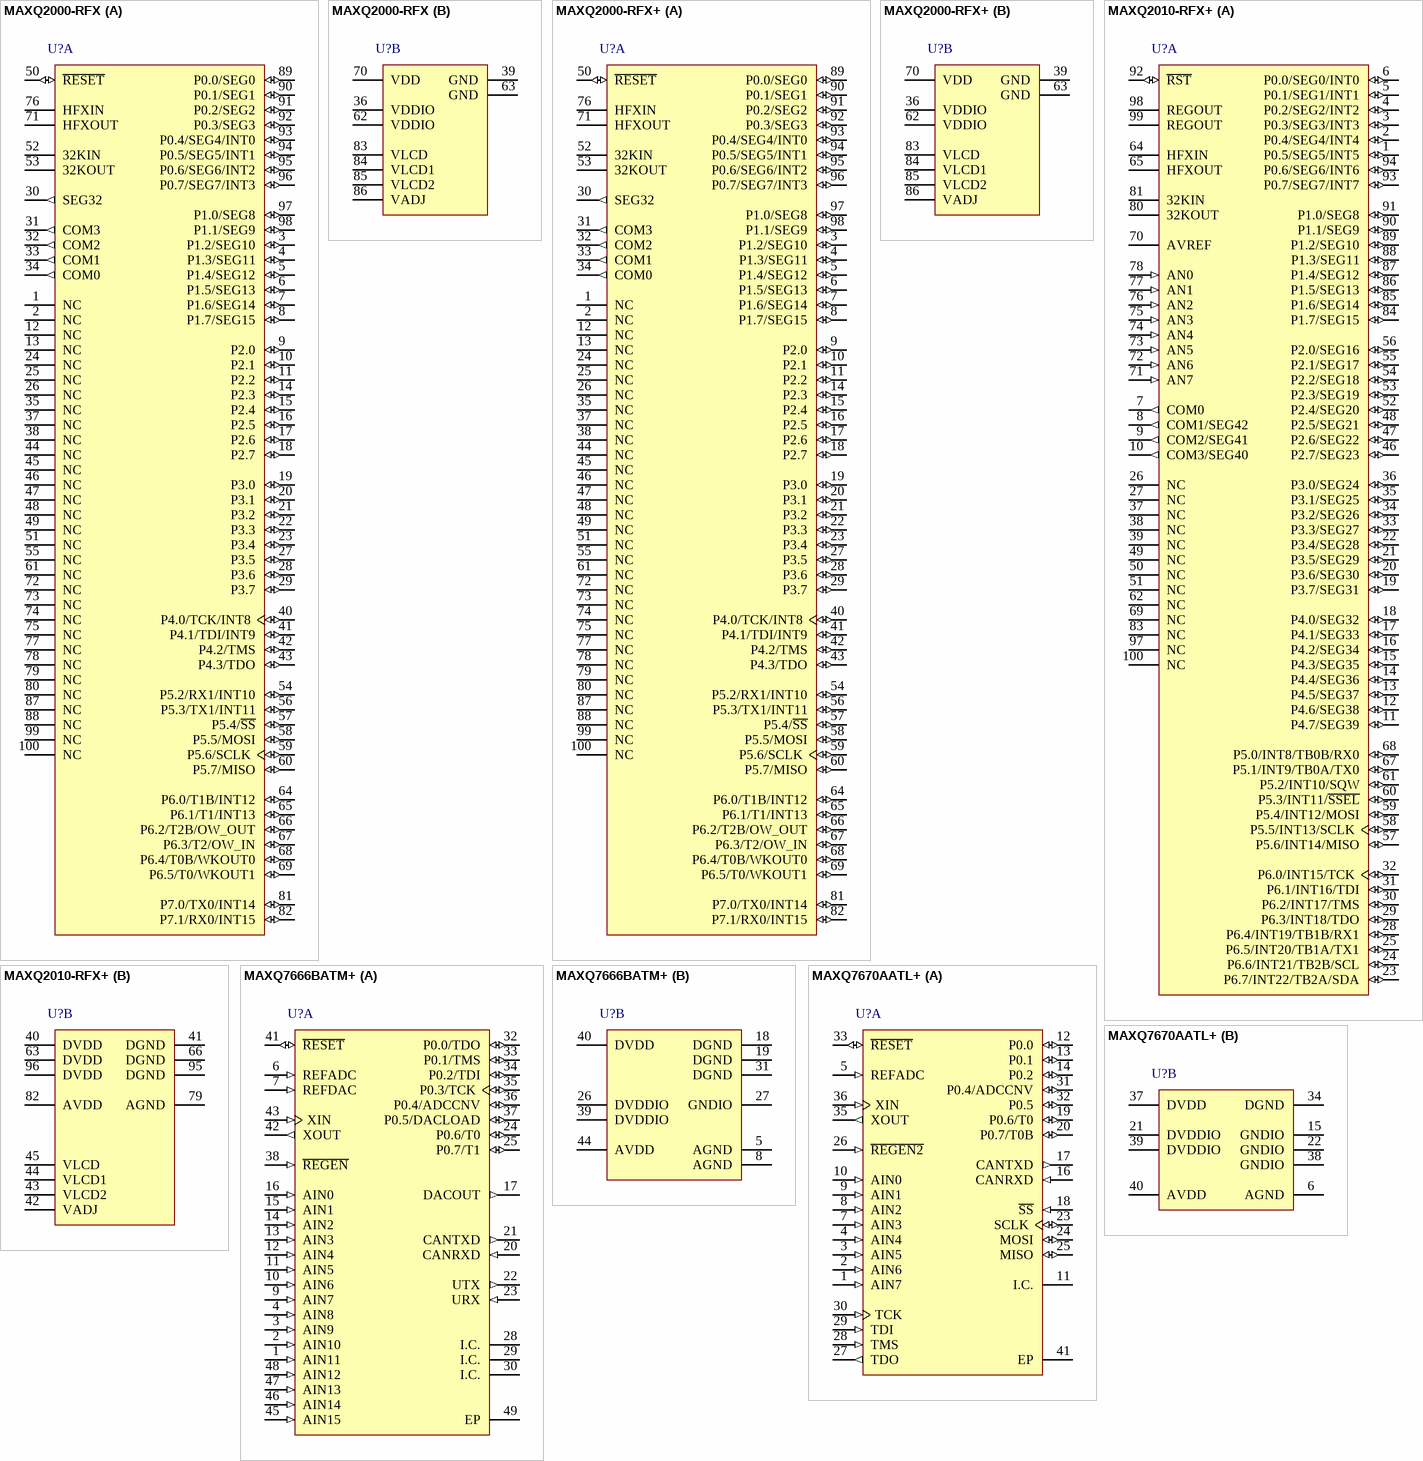
[diagram p23: symbols MAXQ2000-RFX to MAXQ7670AATL+]

## MAXQ2000-RFX
designator U?
16-bit Low-Power LCD Microcontroller, 20 MHz Max. Clock Speed, 100-pin LQFP, -40° to + 85° C; DatasheetVersion: 1/07/2008; PackageVersion: revB, 2009; PackageReference: C100L-1; PackageDescription: 100-Pin Low Quad Flatpack, 14 x 14 x 1.4 mm Body, 0.5 mm Pitch, LQFP; ComponentLink1Description: Manufacturer URL; ComponentLink1URL: www.maxim-ic.com; ComponentLink2Description: Datasheet; ComponentLink2URL: http://datasheets.maxim-ic.com/en/ds/MAXQ2000.pdf
footprint C100L-1_N (Thin QFP, 100-Leads, Body 14x14mm, Pitch 0.5mm, IPC Medium Density)
footprint C100L-1_L (Thin QFP, 100-Leads, Body 14x14mm, Pitch 0.5mm, IPC High Density)
footprint C100L-1_M (Thin QFP, 100-Leads, Body 14x14mm, Pitch 0.5mm, IPC Low Density)
part A pins: 1 NC, 2 NC, 3 P1.2/SEG10 (io), 4 P1.3/SEG11 (io), 5 P1.4/SEG12 (io), 6 P1.5/SEG13 (io), 7 P1.6/SEG14 (io), 8 P1.7/SEG15 (io), 9 P2.0 (io), 10 P2.1 (io), 11 P2.2 (io), 12 NC, 13 NC, 14 P2.3 (io), 15 P2.4 (io), 16 P2.5 (io), 17 P2.6 (io), 18 P2.7 (io), 19 P3.0 (io), 20 P3.1 (io), 21 P3.2 (io), 22 P3.3 (io), 23 P3.4 (io), 24 NC, 25 NC, 26 NC, 27 P3.5 (io), 28 P3.6 (io), 29 P3.7 (io), 30 SEG32 (out), 31 COM3 (out), 32 COM2 (out), 33 COM1 (out), 34 COM0 (out), 35 NC, 37 NC, 38 NC, 40 P4.0/TCK/INT8 (io), 41 P4.1/TDI/INT9 (io), 42 P4.2/TMS (io), 43 P4.3/TDO (io), 44 NC, 45 NC, 46 NC, 47 NC, 48 NC, 49 NC, 50 ~{RESET} (io), 51 NC, 52 32KIN, 53 32KOUT, 54 P5.2/RX1/INT10 (io), 55 NC, 56 P5.3/TX1/INT11 (io), 57 P5.4/~{SS} (io), 58 P5.5/MOSI (io), 59 P5.6/SCLK (io), 60 P5.7/MISO (io), 61 NC, 64 P6.0/T1B/INT12 (io), 65 P6.1/T1/INT13 (io), 66 P6.2/T2B/OW_OUT (io), 67 P6.3/T2/OW_IN (io), 68 P6.4/T0B/WKOUT0 (io), 69 P6.5/T0/WKOUT1 (io), 71 HFXOUT, 72 NC, 73 NC, 74 NC, 75 NC, 76 HFXIN, 77 NC, 78 NC, 79 NC, 80 NC, 81 P7.0/TX0/INT14 (io), 82 P7.1/RX0/INT15 (io), 87 NC, 88 NC, 89 P0.0/SEG0 (io), 90 P0.1/SEG1 (io), 91 P0.2/SEG2 (io), 92 P0.3/SEG3 (io), 93 P0.4/SEG4/INT0 (io), 94 P0.5/SEG5/INT1 (io), 95 P0.6/SEG6/INT2 (io), 96 P0.7/SEG7/INT3 (io), 97 P1.0/SEG8 (io), 98 P1.1/SEG9 (io), 99 NC, 100 NC
part B pins: 36 VDDIO (power), 39 GND (power), 62 VDDIO (power), 63 GND (power), 70 VDD (power), 83 VLCD (power), 84 VLCD1 (power), 85 VLCD2 (power), 86 VADJ (power)

## MAXQ2000-RFX+
designator U?
16-bit Low-Power LCD Microcontroller, 20 MHz Max. Clock Speed, 100-pin LQFP, -40° to + 85° C, Pb-Free; DatasheetVersion: 1/07/2008; PackageVersion: revB, 2009; PackageReference: C100L+1; PackageDescription: 100-Pin Low Quad Flatpack, 14 x 14 x 1.4 mm Body, 0.5 mm Pitch, LQFP, Pb-Free; ComponentLink1Description: Manufacturer URL; ComponentLink1URL: www.maxim-ic.com; ComponentLink2Description: Datasheet; ComponentLink2URL: http://datasheets.maxim-ic.com/en/ds/MAXQ2000.pdf
footprint C100L+1_N (Thin QFP, 100-Leads, Body 14x14mm, Pitch 0.5mm, IPC Medium Density)
footprint C100L+1_L (Thin QFP, 100-Leads, Body 14x14mm, Pitch 0.5mm, IPC High Density)
footprint C100L+1_M (Thin QFP, 100-Leads, Body 14x14mm, Pitch 0.5mm, IPC Low Density)
part A pins: 1 NC, 2 NC, 3 P1.2/SEG10 (io), 4 P1.3/SEG11 (io), 5 P1.4/SEG12 (io), 6 P1.5/SEG13 (io), 7 P1.6/SEG14 (io), 8 P1.7/SEG15 (io), 9 P2.0 (io), 10 P2.1 (io), 11 P2.2 (io), 12 NC, 13 NC, 14 P2.3 (io), 15 P2.4 (io), 16 P2.5 (io), 17 P2.6 (io), 18 P2.7 (io), 19 P3.0 (io), 20 P3.1 (io), 21 P3.2 (io), 22 P3.3 (io), 23 P3.4 (io), 24 NC, 25 NC, 26 NC, 27 P3.5 (io), 28 P3.6 (io), 29 P3.7 (io), 30 SEG32 (out), 31 COM3 (out), 32 COM2 (out), 33 COM1 (out), 34 COM0 (out), 35 NC, 37 NC, 38 NC, 40 P4.0/TCK/INT8 (io), 41 P4.1/TDI/INT9 (io), 42 P4.2/TMS (io), 43 P4.3/TDO (io), 44 NC, 45 NC, 46 NC, 47 NC, 48 NC, 49 NC, 50 ~{RESET} (io), 51 NC, 52 32KIN, 53 32KOUT, 54 P5.2/RX1/INT10 (io), 55 NC, 56 P5.3/TX1/INT11 (io), 57 P5.4/~{SS} (io), 58 P5.5/MOSI (io), 59 P5.6/SCLK (io), 60 P5.7/MISO (io), 61 NC, 64 P6.0/T1B/INT12 (io), 65 P6.1/T1/INT13 (io), 66 P6.2/T2B/OW_OUT (io), 67 P6.3/T2/OW_IN (io), 68 P6.4/T0B/WKOUT0 (io), 69 P6.5/T0/WKOUT1 (io), 71 HFXOUT, 72 NC, 73 NC, 74 NC, 75 NC, 76 HFXIN, 77 NC, 78 NC, 79 NC, 80 NC, 81 P7.0/TX0/INT14 (io), 82 P7.1/RX0/INT15 (io), 87 NC, 88 NC, 89 P0.0/SEG0 (io), 90 P0.1/SEG1 (io), 91 P0.2/SEG2 (io), 92 P0.3/SEG3 (io), 93 P0.4/SEG4/INT0 (io), 94 P0.5/SEG5/INT1 (io), 95 P0.6/SEG6/INT2 (io), 96 P0.7/SEG7/INT3 (io), 97 P1.0/SEG8 (io), 98 P1.1/SEG9 (io), 99 NC, 100 NC
part B pins: 36 VDDIO (power), 39 GND (power), 62 VDDIO (power), 63 GND (power), 70 VDD (power), 83 VLCD (power), 84 VLCD1 (power), 85 VLCD2 (power), 86 VADJ (power)

## MAXQ2010-RFX+
designator U?
16-bit Mixed-Signal Microcontroller with LCD Interface, 10 MHz Max. Clock Speed, 100-pin LQFP, -40° to + 85° C, Pb-Free; DatasheetVersion: 1/12/2008; PackageVersion: revB, 2009; PackageReference: C100L+1; PackageDescription: 100-Pin Low Quad Flatpack, 14 x 14 x 1.4 mm Body, 0.5 mm Pitch, LQFP, Pb-Free; ComponentLink1Description: Manufacturer URL; ComponentLink1URL: www.maxim-ic.com; ComponentLink2Description: Datasheet; ComponentLink2URL: http://datasheets.maxim-ic.com/en/ds/MAXQ2010.pdf
footprint C100L+1_N (Thin QFP, 100-Leads, Body 14x14mm, Pitch 0.5mm, IPC Medium Density)
footprint C100L+1_L (Thin QFP, 100-Leads, Body 14x14mm, Pitch 0.5mm, IPC High Density)
footprint C100L+1_M (Thin QFP, 100-Leads, Body 14x14mm, Pitch 0.5mm, IPC Low Density)
part A pins: 1 P0.5/SEG5/INT5 (io), 2 P0.4/SEG4/INT4 (io), 3 P0.3/SEG3/INT3 (io), 4 P0.2/SEG2/INT2 (io), 5 P0.1/SEG1/INT1 (io), 6 P0.0/SEG0/INT0 (io), 7 COM0 (out), 8 COM1/SEG42 (out), 9 COM2/SEG41 (out), 10 COM3/SEG40 (out), 11 P4.7/SEG39 (io), 12 P4.6/SEG38 (io), 13 P4.5/SEG37 (io), 14 P4.4/SEG36 (io), 15 P4.3/SEG35 (io), 16 P4.2/SEG34 (io), 17 P4.1/SEG33 (io), 18 P4.0/SEG32 (io), 19 P3.7/SEG31 (io), 20 P3.6/SEG30 (io), 21 P3.5/SEG29 (io), 22 P3.4/SEG28 (io), 23 P6.7/INT22/TB2A/SDA (io), 24 P6.6/INT21/TB2B/SCL (io), 25 P6.5/INT20/TB1A/TX1 (io), 26 NC, 27 NC, 28 P6.4/INT19/TB1B/RX1 (io), 29 P6.3/INT18/TDO (io), 30 P6.2/INT17/TMS (io), 31 P6.1/INT16/TDI (io), 32 P6.0/INT15/TCK (io), 33 P3.3/SEG27 (io), 34 P3.2/SEG26 (io), 35 P3.1/SEG25 (io), 36 P3.0/SEG24 (io), 37 NC, 38 NC, 39 NC, 46 P2.7/SEG23 (io), 47 P2.6/SEG22 (io), 48 P2.5/SEG21 (io), 49 NC, 50 NC, 51 NC, 52 P2.4/SEG20 (io), 53 P2.3/SEG19 (io), 54 P2.2/SEG18 (io), 55 P2.1/SEG17 (io), 56 P2.0/SEG16 (io), 57 P5.6/INT14/MISO (io), 58 P5.5/INT13/SCLK (io), 59 P5.4/INT12/MOSI (io), 60 P5.3/INT11/~{SSEL} (io), 61 P5.2/INT10/SQW (io), 62 NC, 64 HFXIN, 65 HFXOUT, 67 P5.1/INT9/TB0A/TX0 (io), 68 P5.0/INT8/TB0B/RX0 (io), 69 NC, 70 AVREF (power), 71 AN7 (in), 72 AN6 (in), 73 AN5 (in), 74 AN4 (in), 75 AN3 (in), 76 AN2 (in), 77 AN1 (in), 78 AN0 (in), 80 32KOUT, 81 32KIN, 83 NC, 84 P1.7/SEG15 (io), 85 P1.6/SEG14 (io), 86 P1.5/SEG13 (io), 87 P1.4/SEG12 (io), 88 P1.3/SEG11 (io), 89 P1.2/SEG10 (io), 90 P1.1/SEG9 (io), 91 P1.0/SEG8 (io), 92 ~{RST} (io), 93 P0.7/SEG7/INT7 (io), 94 P0.6/SEG6/INT6 (io), 97 NC, 98 REGOUT, 99 REGOUT, 100 NC
part B pins: 40 DVDD (power), 41 DGND (power), 42 VADJ (power), 43 VLCD2 (power), 44 VLCD1 (power), 45 VLCD (power), 63 DVDD (power), 66 DGND (power), 79 AGND (power), 82 AVDD (power), 95 DGND (power), 96 DVDD (power)

## MAXQ7666BATM+
designator U?
16-bit RISC, Microcontroller-Based, Smart Data-Acquisition System, 8 MHz Max. Clock Speed, 48-pin TQFN, -40° to + 125° C, Pb-Free; DatasheetVersion: 1/08/2008; PackageVersion: revB, 2010; PackageReference: T4877MK+6; PackageDescription: 48-Pin Thin Quad Flatpack, No Leads Sawn, 7 x 7 x 0.9 mm Body, 0.5 mm Pitch, TQFN, Pb-Free; ComponentLink1Description: Manufacturer URL; ComponentLink1URL: www.maxim-ic.com; ComponentLink2Description: Datasheet; ComponentLink2URL: http://datasheets.maxim-ic.com/en/ds/MAXQ7666.pdf
footprint T4877MK+6_N (QFN, 48-Leads, Body 7x7mm, Pitch 0.5mm, Thermal Pad 5.6x5.6mm, IPC Medium Density)
footprint T4877MK+6_L (QFN, 48-Leads, Body 7x7mm, Pitch 0.5mm, Thermal Pad 5.6x5.6mm, IPC High Density)
footprint T4877MK+6_M (QFN, 48-Leads, Body 7x7mm, Pitch 0.5mm, Thermal Pad 5.6x5.6mm, IPC Low Density)
part A pins: 1 AIN11 (in), 2 AIN10 (in), 3 AIN9 (in), 4 AIN8 (in), 6 REFADC (in), 7 REFDAC (in), 9 AIN7 (in), 10 AIN6 (in), 11 AIN5 (in), 12 AIN4 (in), 13 AIN3 (in), 14 AIN2 (in), 15 AIN1 (in), 16 AIN0 (in), 17 DACOUT (out), 20 CANRXD (in), 21 CANTXD (out), 22 UTX (out), 23 URX (in), 24 P0.6/T0 (io), 25 P0.7/T1 (io), 28 I.C., 29 I.C., 30 I.C., 32 P0.0/TDO (io), 33 P0.1/TMS (io), 34 P0.2/TDI (io), 35 P0.3/TCK (io), 36 P0.4/ADCCNV (io), 37 P0.5/DACLOAD (io), 38 ~{REGEN} (in), 41 ~{RESET} (io), 42 XOUT (out), 43 XIN (in), 45 AIN15 (in), 46 AIN14 (in), 47 AIN13 (in), 48 AIN12 (in), 49 EP
part B pins: 5 AGND (power), 8 AGND (power), 18 DGND (power), 19 DGND (power), 26 DVDDIO (power), 27 GNDIO (power), 31 DGND (power), 39 DVDDIO (power), 40 DVDD (power), 44 AVDD (power)

## MAXQ7670AATL+
designator U?
16-bit Microcontroller with 12-Bit ADC, PGA, 64KB Flash, and CAN Interface, 16 MHz Max. Clock Speed, 40-pin TQFN, -40° to + 125° C, Pb-Free; DatasheetVersion: 1/06/2010; PackageVersion: revO, 2011; PackageReference: T4055+1; PackageDescription: 40-Pin Thin Quad Flatpack, No Leads, 5 x 5 x 0.75 mm Body, 0.4 mm Pitch, TQFN, Pb-Free; ComponentLink1Description: Manufacturer URL; ComponentLink1URL: www.maxim-ic.com; ComponentLink2Description: Datasheet; ComponentLink2URL: http://datasheets.maxim-ic.com/en/ds/MAXQ7670A.pdf
footprint T4055+1_N (QFN, 40-Leads, Body 5x5mm, Pitch 0.4mm, Thermal Pad 3.6x3.6mm, IPC Medium Density)
footprint T4055+1_L (QFN, 40-Leads, Body 5x5mm, Pitch 0.4mm, Thermal Pad 3.6x3.6mm, IPC High Density)
footprint T4055+1_M (QFN, 40-Leads, Body 5x5mm, Pitch 0.4mm, Thermal Pad 3.6x3.6mm, IPC Low Density)
part A pins: 1 AIN7 (in), 2 AIN6 (in), 3 AIN5 (in), 4 AIN4 (in), 5 REFADC (in), 7 AIN3 (in), 8 AIN2 (in), 9 AIN1 (in), 10 AIN0 (in), 11 I.C., 12 P0.0 (io), 13 P0.1 (io), 14 P0.2 (io), 16 CANRXD (in), 17 CANTXD (out), 18 ~{SS} (in), 19 P0.6/T0 (io), 20 P0.7/T0B (io), 23 SCLK (io), 24 MOSI (io), 25 MISO (io), 26 ~{REGEN2} (in), 27 TDO (out), 28 TMS (in), 29 TDI (in), 30 TCK (in), 31 P0.4/ADCCNV (io), 32 P0.5 (io), 33 ~{RESET} (io), 35 XOUT (out), 36 XIN (in), 41 EP
part B pins: 6 AGND (power), 15 GNDIO (power), 21 DVDDIO (power), 22 GNDIO (power), 34 DGND (power), 37 DVDD (power), 38 GNDIO (power), 39 DVDDIO (power), 40 AVDD (power)

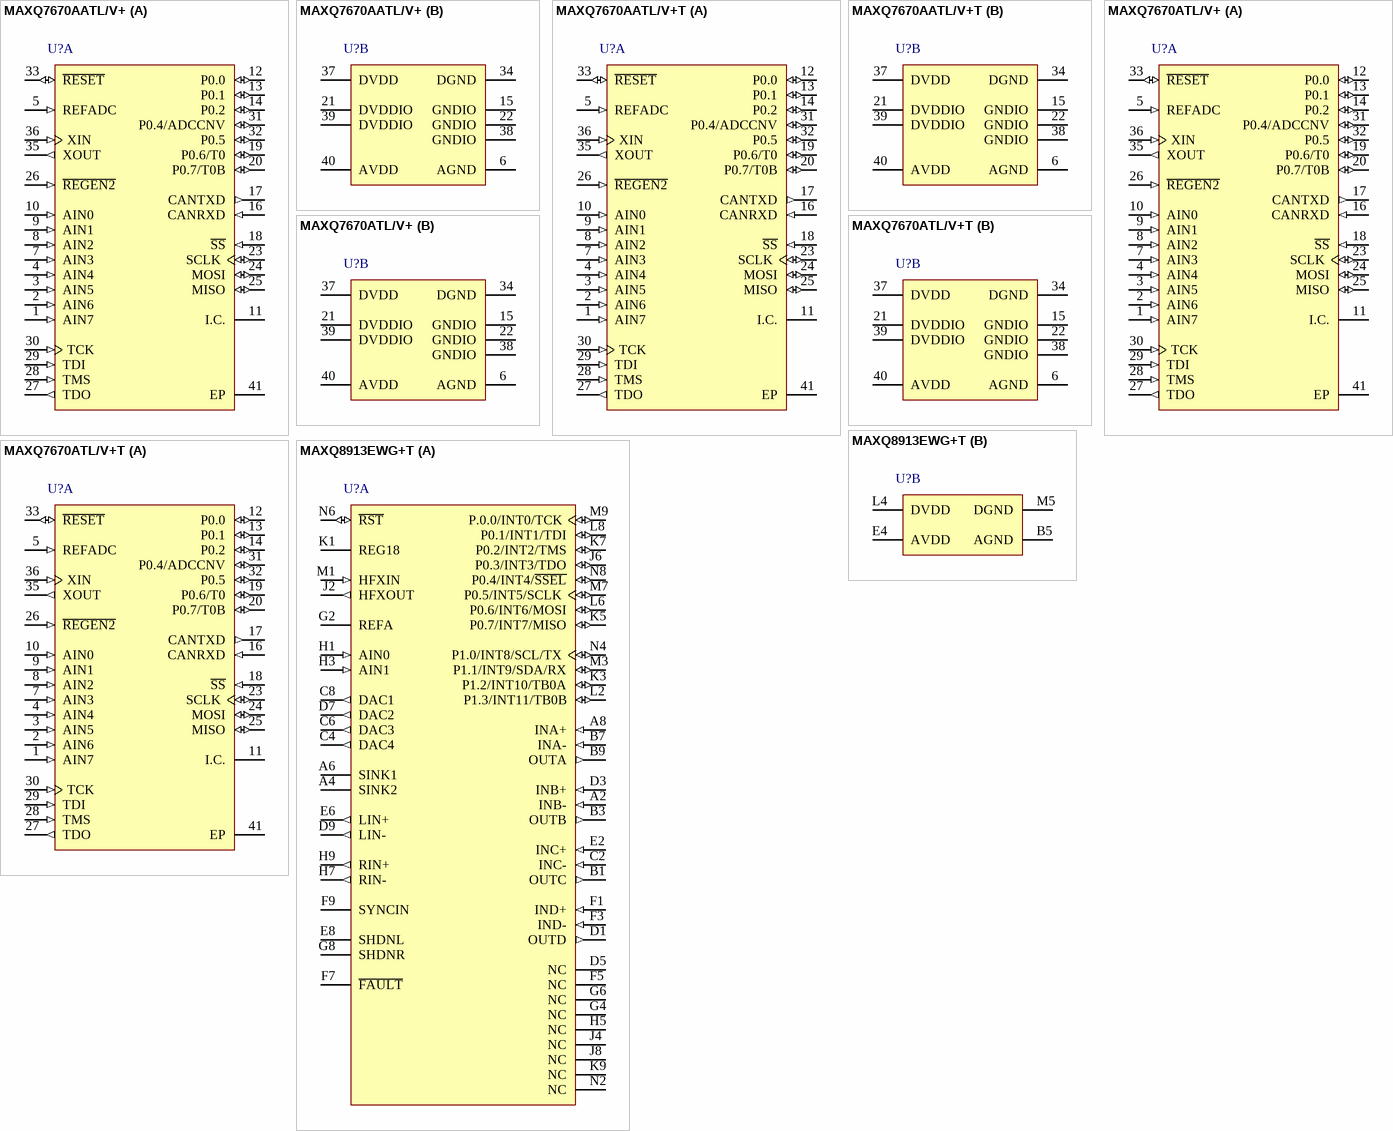
[diagram p24: symbols MAXQ7670AATL/V+ to MAXQ8913EWG+T]

## MAXQ7670AATL/V+
designator U?
16-bit Microcontroller with 12-Bit ADC, PGA, 64KB Flash, and CAN Interface, 16 MHz Max. Clock Speed, 40-pin TQFN, -40° to + 125° C, Pb-Free; DatasheetVersion: 1/06/2010; PackageVersion: revO, 2011; PackageReference: T4055+1; PackageDescription: 40-Pin Thin Quad Flatpack, No Leads, 5 x 5 x 0.75 mm Body, 0.4 mm Pitch, TQFN, Pb-Free; ComponentLink1Description: Manufacturer URL; ComponentLink1URL: www.maxim-ic.com; ComponentLink2Description: Datasheet; ComponentLink2URL: http://datasheets.maxim-ic.com/en/ds/MAXQ7670A.pdf
footprint T4055+1_N (QFN, 40-Leads, Body 5x5mm, Pitch 0.4mm, Thermal Pad 3.6x3.6mm, IPC Medium Density)
footprint T4055+1_L (QFN, 40-Leads, Body 5x5mm, Pitch 0.4mm, Thermal Pad 3.6x3.6mm, IPC High Density)
footprint T4055+1_M (QFN, 40-Leads, Body 5x5mm, Pitch 0.4mm, Thermal Pad 3.6x3.6mm, IPC Low Density)
part A pins: 1 AIN7 (in), 2 AIN6 (in), 3 AIN5 (in), 4 AIN4 (in), 5 REFADC (in), 7 AIN3 (in), 8 AIN2 (in), 9 AIN1 (in), 10 AIN0 (in), 11 I.C., 12 P0.0 (io), 13 P0.1 (io), 14 P0.2 (io), 16 CANRXD (in), 17 CANTXD (out), 18 ~{SS} (in), 19 P0.6/T0 (io), 20 P0.7/T0B (io), 23 SCLK (io), 24 MOSI (io), 25 MISO (io), 26 ~{REGEN2} (in), 27 TDO (out), 28 TMS (in), 29 TDI (in), 30 TCK (in), 31 P0.4/ADCCNV (io), 32 P0.5 (io), 33 ~{RESET} (io), 35 XOUT (out), 36 XIN (in), 41 EP
part B pins: 6 AGND (power), 15 GNDIO (power), 21 DVDDIO (power), 22 GNDIO (power), 34 DGND (power), 37 DVDD (power), 38 GNDIO (power), 39 DVDDIO (power), 40 AVDD (power)

## MAXQ7670AATL/V+T
designator U?
16-bit Microcontroller with 12-Bit ADC, PGA, 64KB Flash, and CAN Interface, 16 MHz Max. Clock Speed, 40-pin TQFN, -40° to + 125° C, Pb-Free, Tape and Reel; DatasheetVersion: 1/06/2010; PackageVersion: revO, 2011; PackageReference: T4055+1; PackageDescription: 40-Pin Thin Quad Flatpack, No Leads, 5 x 5 x 0.75 mm Body, 0.4 mm Pitch, TQFN, Pb-Free; ComponentLink1Description: Manufacturer URL; ComponentLink1URL: www.maxim-ic.com; ComponentLink2Description: Datasheet; ComponentLink2URL: http://datasheets.maxim-ic.com/en/ds/MAXQ7670A.pdf
footprint T4055+1_N (QFN, 40-Leads, Body 5x5mm, Pitch 0.4mm, Thermal Pad 3.6x3.6mm, IPC Medium Density)
footprint T4055+1_L (QFN, 40-Leads, Body 5x5mm, Pitch 0.4mm, Thermal Pad 3.6x3.6mm, IPC High Density)
footprint T4055+1_M (QFN, 40-Leads, Body 5x5mm, Pitch 0.4mm, Thermal Pad 3.6x3.6mm, IPC Low Density)
part A pins: 1 AIN7 (in), 2 AIN6 (in), 3 AIN5 (in), 4 AIN4 (in), 5 REFADC (in), 7 AIN3 (in), 8 AIN2 (in), 9 AIN1 (in), 10 AIN0 (in), 11 I.C., 12 P0.0 (io), 13 P0.1 (io), 14 P0.2 (io), 16 CANRXD (in), 17 CANTXD (out), 18 ~{SS} (in), 19 P0.6/T0 (io), 20 P0.7/T0B (io), 23 SCLK (io), 24 MOSI (io), 25 MISO (io), 26 ~{REGEN2} (in), 27 TDO (out), 28 TMS (in), 29 TDI (in), 30 TCK (in), 31 P0.4/ADCCNV (io), 32 P0.5 (io), 33 ~{RESET} (io), 35 XOUT (out), 36 XIN (in), 41 EP
part B pins: 6 AGND (power), 15 GNDIO (power), 21 DVDDIO (power), 22 GNDIO (power), 34 DGND (power), 37 DVDD (power), 38 GNDIO (power), 39 DVDDIO (power), 40 AVDD (power)

## MAXQ7670ATL/V+
designator U?
16-bit Microcontroller with 10-Bit ADC, PGA, 64KB Flash, and CAN Interface, 16 MHz Max. Clock Speed, 40-pin TQFN, -40° to + 125° C, Pb-Free; DatasheetVersion: 1/07/2009; PackageVersion: revO, 2011; PackageReference: T4055+1; PackageDescription: 40-Pin Thin Quad Flatpack, No Leads, 5 x 5 x 0.75 mm Body, 0.4 mm Pitch, TQFN, Pb-Free; ComponentLink1Description: Manufacturer URL; ComponentLink1URL: www.maxim-ic.com; ComponentLink2Description: Datasheet; ComponentLink2URL: http://datasheets.maxim-ic.com/en/ds/MAXQ7670.pdf
footprint T4055+1_N (QFN, 40-Leads, Body 5x5mm, Pitch 0.4mm, Thermal Pad 3.6x3.6mm, IPC Medium Density)
footprint T4055+1_L (QFN, 40-Leads, Body 5x5mm, Pitch 0.4mm, Thermal Pad 3.6x3.6mm, IPC High Density)
footprint T4055+1_M (QFN, 40-Leads, Body 5x5mm, Pitch 0.4mm, Thermal Pad 3.6x3.6mm, IPC Low Density)
part A pins: 1 AIN7 (in), 2 AIN6 (in), 3 AIN5 (in), 4 AIN4 (in), 5 REFADC (in), 7 AIN3 (in), 8 AIN2 (in), 9 AIN1 (in), 10 AIN0 (in), 11 I.C., 12 P0.0 (io), 13 P0.1 (io), 14 P0.2 (io), 16 CANRXD (in), 17 CANTXD (out), 18 ~{SS} (in), 19 P0.6/T0 (io), 20 P0.7/T0B (io), 23 SCLK (io), 24 MOSI (io), 25 MISO (io), 26 ~{REGEN2} (in), 27 TDO (out), 28 TMS (in), 29 TDI (in), 30 TCK (in), 31 P0.4/ADCCNV (io), 32 P0.5 (io), 33 ~{RESET} (io), 35 XOUT (out), 36 XIN (in), 41 EP
part B pins: 6 AGND (power), 15 GNDIO (power), 21 DVDDIO (power), 22 GNDIO (power), 34 DGND (power), 37 DVDD (power), 38 GNDIO (power), 39 DVDDIO (power), 40 AVDD (power)

## MAXQ7670ATL/V+T
designator U?
16-bit Microcontroller with 10-Bit ADC, PGA, 64KB Flash, and CAN Interface, 16 MHz Max. Clock Speed, 40-pin TQFN, -40° to + 125° C, Pb-Free, Tape and Reel; DatasheetVersion: 1/07/2009; PackageVersion: revO, 2011; PackageReference: T4055+1; PackageDescription: 40-Pin Thin Quad Flatpack, No Leads, 5 x 5 x 0.75 mm Body, 0.4 mm Pitch, TQFN, Pb-Free; ComponentLink1Description: Manufacturer URL; ComponentLink1URL: www.maxim-ic.com; ComponentLink2Description: Datasheet; ComponentLink2URL: http://datasheets.maxim-ic.com/en/ds/MAXQ7670.pdf
footprint T4055+1_N (QFN, 40-Leads, Body 5x5mm, Pitch 0.4mm, Thermal Pad 3.6x3.6mm, IPC Medium Density)
footprint T4055+1_L (QFN, 40-Leads, Body 5x5mm, Pitch 0.4mm, Thermal Pad 3.6x3.6mm, IPC High Density)
footprint T4055+1_M (QFN, 40-Leads, Body 5x5mm, Pitch 0.4mm, Thermal Pad 3.6x3.6mm, IPC Low Density)
part A pins: 1 AIN7 (in), 2 AIN6 (in), 3 AIN5 (in), 4 AIN4 (in), 5 REFADC (in), 7 AIN3 (in), 8 AIN2 (in), 9 AIN1 (in), 10 AIN0 (in), 11 I.C., 12 P0.0 (io), 13 P0.1 (io), 14 P0.2 (io), 16 CANRXD (in), 17 CANTXD (out), 18 ~{SS} (in), 19 P0.6/T0 (io), 20 P0.7/T0B (io), 23 SCLK (io), 24 MOSI (io), 25 MISO (io), 26 ~{REGEN2} (in), 27 TDO (out), 28 TMS (in), 29 TDI (in), 30 TCK (in), 31 P0.4/ADCCNV (io), 32 P0.5 (io), 33 ~{RESET} (io), 35 XOUT (out), 36 XIN (in), 41 EP
part B pins: 6 AGND (power), 15 GNDIO (power), 21 DVDDIO (power), 22 GNDIO (power), 34 DGND (power), 37 DVDD (power), 38 GNDIO (power), 39 DVDDIO (power), 40 AVDD (power)

## MAXQ8913EWG+T
designator U?
16-bit Mixed-Signal Microcontroller with Op Amps, ADC, and DACs for All-in-One Servo Loop Control, 10 MHz Max. Clock Speed, 58-pin WLP, -40° to + 85° C, Pb-Free, Tape and Reel; DatasheetVersion: 1/06/2009; PackageVersion: revA, 2008; PackageReference: W584B2+1; PackageDescription: 58-Ball Wafer-Level Package 13x9 Bump, 0.4 mm Staggered Pitch (WLP); ComponentLink1Description: Manufacturer URL; ComponentLink1URL: www.maxim-ic.com; ComponentLink2Description: Datasheet; ComponentLink2URL: http://datasheets.maxim-ic.com/en/ds/MAXQ8913.pdf
footprint W584B2+1 (BGA, Staggered, 58-Leads, Body 4.2x2.9mm, Pitch 0.4mm)
part A pins: A2 INB- (in), A4 SINK2, A6 SINK1, A8 INA+ (in), B1 OUTC (out), B3 OUTB (out), B7 INA- (in), B9 OUTA (out), C2 INC- (in), C4 DAC4 (out), C6 DAC3 (out), C8 DAC1 (out), D1 OUTD (out), D3 INB+ (in), D5 NC, D7 DAC2 (out), D9 LIN- (out), E2 INC+ (in), E6 LIN+ (out), E8 SHDNL, F1 IND+ (in), F3 IND- (in), F5 NC, F7 ~{FAULT}, F9 SYNCIN, G2 REFA (power), G4 NC, G6 NC, G8 SHDNR, H1 AIN0 (in), H3 AIN1 (in), H5 NC, H7 RIN- (out), H9 RIN+ (out), J2 HFXOUT (out), J4 NC, J6 P0.3/INT3/TDO (io), J8 NC, K1 REG18, K3 P1.2/INT10/TB0A (io), K5 P0.7/INT7/MISO (io), K7 P0.2/INT2/TMS (io), K9 NC, L2 P1.3/INT11/TB0B (io), L6 P0.6/INT6/MOSI (io), L8 P0.1/INT1/TDI (io), M1 HFXIN (in), M3 P1.1/INT9/SDA/RX (io), M7 P0.5/INT5/SCLK (io), M9 P.0.0/INT0/TCK (io), N2 NC, N4 P1.0/INT8/SCL/TX (io), N6 ~{RST} (io), N8 P0.4/INT4/~{SSEL} (io)
part B pins: B5 AGND (power), E4 AVDD (power), L4 DVDD (power), M5 DGND (power)